# Altium schematic symbol library STMicroelectronics Power Management High PSRR LDO Regulators.SchLib: 1 symbol
Pins are listed as number, name and electrical type; pins without a type are passive.

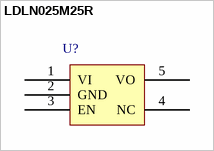
[diagram p0: symbol LDLN025M25R]

## LDLN025M25R
designator U?
Linear Voltage Regulator IC  1 Output  250mA SOT-23-5; Manufacturer: STMicroelectronics; PartNumber: LDLN025M25R; Package: SOT-23-5L; PackageDescription: Small Outine Transistor 5 Leads; Supplier 1: Digi-Key; Supplier Part Number 1: 497-17805-2-ND
footprint SOT95P280X145-5L (SOT23, 5-Leads, Body 2.95x2.80mm, Pitch 0.95mm, IPC High Density)
footprint SOT95P280X145-5M (SOT23, 5-Leads, Body 2.95x2.80mm, Pitch 0.95mm, IPC Low Density)
footprint SOT95P280X145-5N (SOT23, 5-Leads, Body 2.95x2.80mm, Pitch 0.95mm, IPC Medium Density)
pins: 1 VI, 2 GND, 3 EN, 4 NC, 5 VO